# EAGLE library part I__4047 (library ..SMD)
LP monostable/astable MULTIVIBRATOR
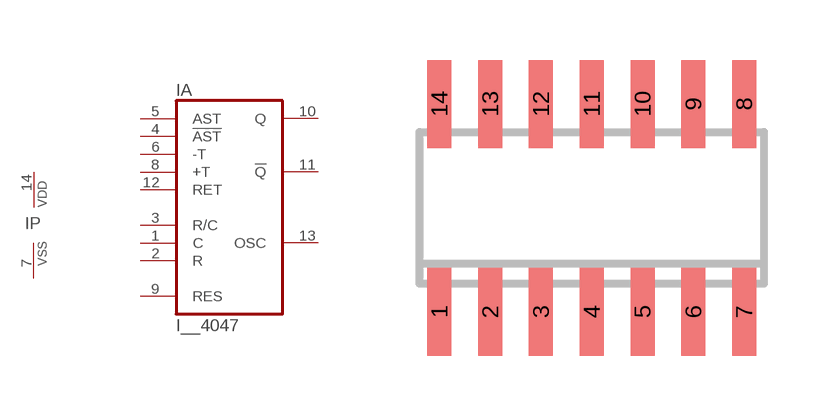
[diagram p46: symbol with the pads of SO14; footprint SO14]

Designator prefix I; gates A=4047 P=PWRN

## I__4047D  [SO14]
1  A:C  in
2  A:R  in
3  A:R/C  in
4  A:!AST  in
5  A:AST  in
6  A:-T  in
7  P:VSS  pwr
8  A:+T  in
9  A:RES  in
10  A:Q  out
11  A:!Q  out
12  A:RET  in
13  A:OSC  out
14  P:VDD  pwr

## Footprint SO14 (pad centres in mm)
Small Outline Package 14
smd 0.6 x 2.2: 1 -3.81,-2.6; 2 -2.54,-2.6; 3 -1.27,-2.6; 4 0,-2.6; 5 1.27,-2.6; 6 2.54,-2.6; 7 3.81,-2.6; 8 3.81,2.6; 9 2.54,2.6; 10 1.27,2.6; 11 0,2.6; 12 -1.27,2.6; 13 -2.54,2.6; 14 -3.81,2.6